# EAGLE library part DS90UB953TRHBTQ1 (library DS90UB953TRHBTQ1)
2 MP MIPI CSI-2 FPD-Link III serializer for 2MP/60fps cameras & radar Source: Datasheet <http://www.ti.com/lit/gpn/ds90ub953-q1>
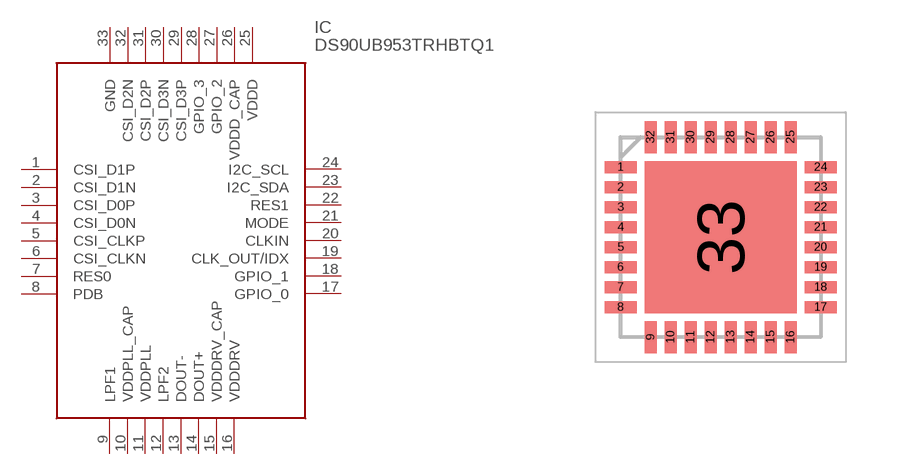
[diagram p0: symbol with the pads of QFN50P500X500X100-33N; footprint QFN50P500X500X100-33N]

Designator prefix IC

## DS90UB953TRHBTQ1 (Description: 2 MP MIPI CSI-2 FPD-Link III serializer for 2MP/60fps cameras & radar; Height: 1mm; Manufacturer_Name: Texas Instruments; Manufacturer_Part_Number: DS90UB953TRHBTQ1; Mouser_Part_Number: 595-DS90UB953TRHBTQ1; Mouser_Price-Stock: https://www.mouser.co.uk/ProductDetail/Texas-Instruments/DS90UB953TRHBTQ1?qs=OEYMhS7p3YYobKAcq0j91Q%3D%3D)  [QFN50P500X500X100-33N]
1  CSI_D1P
2  CSI_D1N
3  CSI_D0P
4  CSI_D0N
5  CSI_CLKP
6  CSI_CLKN
7  RES0
8  PDB
9  LPF1
10  VDDPLL_CAP
11  VDDPLL
12  LPF2
13  DOUT-
14  DOUT+
15  VDDDRV_CAP
16  VDDDRV
17  GPIO_0
18  GPIO_1
19  CLK_OUT/IDX
20  CLKIN
21  MODE
22  RES1
23  I2C_SDA
24  I2C_SCL
25  VDDD
26  VDDD_CAP
27  GPIO_2
28  GPIO_3
29  CSI_D3P
30  CSI_D3N
31  CSI_D2P
32  CSI_D2N
33  GND

## Footprint QFN50P500X500X100-33N (pad centres in mm)
RHB0032P vqfn
smd 0.8 x 0.3: 1 -2.5,1.75; 2 -2.5,1.25; 3 -2.5,0.75; 4 -2.5,0.25; 5 -2.5,-0.25; 6 -2.5,-0.75; 7 -2.5,-1.25; 8 -2.5,-1.75; 17 2.5,-1.75; 18 2.5,-1.25; 19 2.5,-0.75; 20 2.5,-0.25; 21 2.5,0.25; 22 2.5,0.75; 23 2.5,1.25; 24 2.5,1.75
smd 0.3 x 0.8: 9 -1.75,-2.5; 10 -1.25,-2.5; 11 -0.75,-2.5; 12 -0.25,-2.5; 13 0.25,-2.5; 14 0.75,-2.5; 15 1.25,-2.5; 16 1.75,-2.5; 25 1.75,2.5; 26 1.25,2.5; 27 0.75,2.5; 28 0.25,2.5; 29 -0.25,2.5; 30 -0.75,2.5; 31 -1.25,2.5; 32 -1.75,2.5
smd 3.8 x 3.8: 33 0,0